# Altium schematic symbol library MAX14783EASA+.SchLib: 1 symbol
Pins are listed as number, name and electrical type; pins without a type are passive.

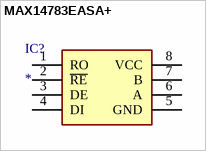
[diagram p0: symbol MAX14783EASA+]

## MAX14783EASA+
designator IC?
Integrated Circuit; Manufacturer_Name: Maxim Integrated; Manufacturer_Part_Number: MAX14783EASA+; Description: MAXIM INTEGRATED PRODUCTS - MAX14783EASA+ - RS422/RS485 TXRX; Datasheet Link: https://datasheets.maximintegrated.com/en/ds/MAX14783E.pdf; Height: 1.75mm; Mouser Part Number: 700-MAX14783EASA+; Mouser Price/Stock: https://www.mouser.com/Search/Refine.aspx?Keyword=700-MAX14783EASA%2B
footprint SOIC127P600X175-8N
pins: 1 RO, 2 ~{RE}, 3 DE, 4 DI, 5 GND, 6 A, 7 B, 8 VCC